# Altium integrated library Renesas Transistor.IntLib: 835 symbols (part 1 of 18)
Pins are listed as number, name and electrical type; pins without a type are passive.

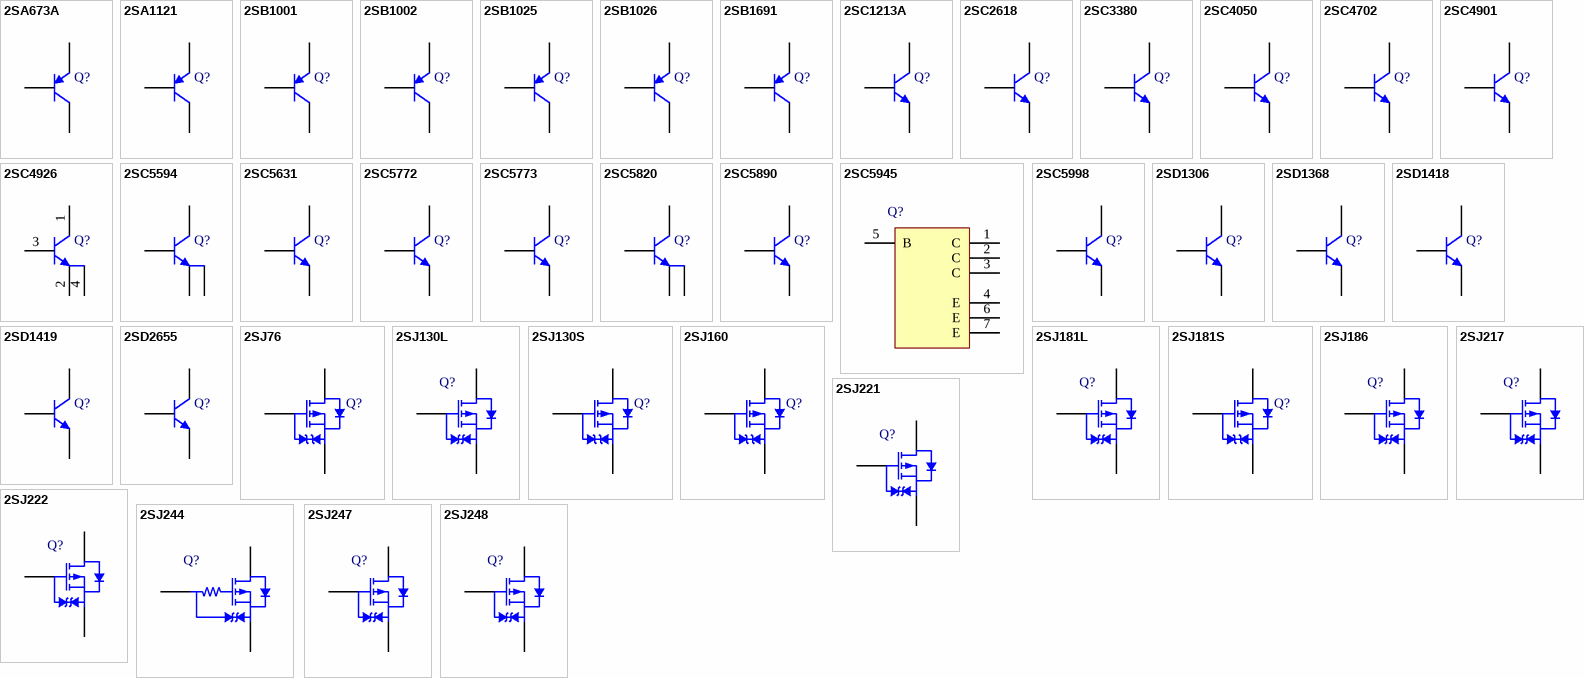
[diagram p0: symbols 2SA673A to 2SJ248]

## 2SA673A
designator Q?
Silicon PNP Epitaxial; Published: 30-Oct-2009; DatasheetVersion: Rev.2.00, Aug-2005; PackageVersion: Jan-2005; PackageReference: PRSS0003DA-A; Publisher: Altium Limited; PackageDescription: TO, Flat Index; 3 In-Line, Axial Leads; Body Dia. 4.8mm; Leads 0.55 x 0.5 mm (max); Code_JEITA: SC-43A; ComponentLink1Description: Manufacturer Link; ComponentLink1URL: http://sg.renesas.com/fmwk.jsp?cnt=discrete_category_landing.jsp&fp=/products/discrete/; ComponentLink2Description: Datasheet; ComponentLink2URL: http://documentation.renesas.com/eng/products/transistor/rej03g0626_2sa673ds.pdf; ComponentLink3Description: Packaging Specification; ComponentLink3URL: http://sg.renesas.com/media/products/common_info/package/pdf/transistor/code/prss0003da_a.pdf
footprint PRSS0003DA-A (TO, Flat Index; 3 In-Line, Axial Leads; Body Dia. 4.8mm; Leads 0.55 x 0.5 mm (max))
pins: 1 E, 2 C, 3 B

## 2SA1121
designator Q?
Silicon PNP Epitaxial; Published: 30-Oct-2009; DatasheetVersion: Rev.2.00, Aug-2005; PackageVersion: Sep-2005; PackageReference: PLSP0003ZB-A; Publisher: Altium Limited; PackageDescription: 3-Pin Plastic SOT-23 Package 0.95 mm Pitch, 2.8 mm Lead Span - Alternate Lead Configuration; Code_JEITA: SC-59A; ComponentLink1Description: Manufacturer Link; ComponentLink1URL: http://sg.renesas.com/fmwk.jsp?cnt=discrete_category_landing.jsp&fp=/products/discrete/; ComponentLink2Description: Datasheet; ComponentLink2URL: http://documentation.renesas.com/eng/products/transistor/rej03g0636_2sa1121ds.pdf; ComponentLink3Description: Packaging Specification; ComponentLink3URL: http://sg.renesas.com/media/products/common_info/package/pdf/transistor/code/plsp0003zb_a.pdf
footprint PLSP0003ZB-A_N (SOT23, 3-Leads, Body 2.9x1.5mm, Pitch 0.95mm, Lead Span 2.8mm - Alternate Lead Configuration, IPC Medium Density)
footprint PLSP0003ZB-A_L (SOT23, 3-Leads, Body 2.9x1.5mm, Pitch 0.95mm, Lead Span 2.8mm - Alternate Lead Configuration, IPC High Density)
footprint PLSP0003ZB-A_M (SOT23, 3-Leads, Body 2.9x1.5mm, Pitch 0.95mm, Lead Span 2.8mm - Alternate Lead Configuration, IPC Low Density)
pins: 1 E, 2 B, 3 C

## 2SB1001
designator Q?
Silicon PNP Epitaxial; Published: 30-Oct-2009; DatasheetVersion: Rev.2.00, Aug-2005; PackageVersion: Jan-2005; PackageReference: PLZZ0004CA-A; Publisher: Altium Limited; PackageDescription: 3-Pin Plastic SOT-89 Package 1.5 mm Pitch, 4 mm Lead Span; Code_JEITA: SC-62; Code_IPC: SOT89; ComponentLink1Description: Manufacturer Link; ComponentLink1URL: http://sg.renesas.com/fmwk.jsp?cnt=discrete_category_landing.jsp&fp=/products/discrete/; ComponentLink2Description: Datasheet; ComponentLink2URL: http://documentation.renesas.com/eng/products/transistor/rej03g0659_2sb1001ds.pdf; ComponentLink3Description: Packaging Specification; ComponentLink3URL: http://sg.renesas.com/media/products/common_info/package/pdf/transistor/code/plzz0004ca_a.pdf
footprint PLZZ0004CA-A_N (SOT89, 3-Leads, Body 4.5x2.5 mm, Pitch 1.5mm, Lead Span 4mm, IPC Medium Density)
footprint PLZZ0004CA-A_L (SOT89, 3-Leads, Body 4.5x2.5 mm, Pitch 1.5mm, Lead Span 4mm, IPC High Density)
footprint PLZZ0004CA-A_M (SOT89, 3-Leads, Body 4.5x2.5 mm, Pitch 1.5mm, Lead Span 4mm, IPC Low Density)
pins: 1 B, 2 C, 3 E

## 2SB1002
designator Q?
Silicon PNP Epitaxial; Published: 30-Oct-2009; DatasheetVersion: Rev.2.00, Aug-2005; PackageVersion: Jan-2005; PackageReference: PLZZ0004CA-A; Publisher: Altium Limited; PackageDescription: 3-Pin Plastic SOT-89 Package 1.5 mm Pitch, 4 mm Lead Span; Code_JEITA: SC-62; Code_IPC: SOT89; ComponentLink1Description: Manufacturer Link; ComponentLink1URL: http://sg.renesas.com/fmwk.jsp?cnt=discrete_category_landing.jsp&fp=/products/discrete/; ComponentLink2Description: Datasheet; ComponentLink2URL: http://documentation.renesas.com/eng/products/transistor/rej03g0660_2sb1002ds.pdf; ComponentLink3Description: Packaging Specification; ComponentLink3URL: http://sg.renesas.com/media/products/common_info/package/pdf/transistor/code/plzz0004ca_a.pdf
footprint PLZZ0004CA-A_N (SOT89, 3-Leads, Body 4.5x2.5 mm, Pitch 1.5mm, Lead Span 4mm, IPC Medium Density)
footprint PLZZ0004CA-A_L (SOT89, 3-Leads, Body 4.5x2.5 mm, Pitch 1.5mm, Lead Span 4mm, IPC High Density)
footprint PLZZ0004CA-A_M (SOT89, 3-Leads, Body 4.5x2.5 mm, Pitch 1.5mm, Lead Span 4mm, IPC Low Density)
pins: 1 B, 2 C, 3 E

## 2SB1025
designator Q?
Silicon PNP Epitaxial; Published: 30-Oct-2009; DatasheetVersion: Rev.2.00, Aug-2005; PackageVersion: Jan-2005; PackageReference: PLZZ0004CA-A; Publisher: Altium Limited; PackageDescription: 3-Pin Plastic SOT-89 Package 1.5 mm Pitch, 4 mm Lead Span; Code_JEITA: SC-62; Code_IPC: SOT89; ComponentLink1Description: Manufacturer Link; ComponentLink1URL: http://sg.renesas.com/fmwk.jsp?cnt=discrete_category_landing.jsp&fp=/products/discrete/; ComponentLink2Description: Datasheet; ComponentLink2URL: http://documentation.renesas.com/eng/products/transistor/rej03g0661_2sb1025ds.pdf; ComponentLink3Description: Packaging Specification; ComponentLink3URL: http://sg.renesas.com/media/products/common_info/package/pdf/transistor/code/plzz0004ca_a.pdf
footprint PLZZ0004CA-A_N (SOT89, 3-Leads, Body 4.5x2.5 mm, Pitch 1.5mm, Lead Span 4mm, IPC Medium Density)
footprint PLZZ0004CA-A_L (SOT89, 3-Leads, Body 4.5x2.5 mm, Pitch 1.5mm, Lead Span 4mm, IPC High Density)
footprint PLZZ0004CA-A_M (SOT89, 3-Leads, Body 4.5x2.5 mm, Pitch 1.5mm, Lead Span 4mm, IPC Low Density)
pins: 1 B, 2 C, 3 E

## 2SB1026
designator Q?
Silicon PNP Epitaxial; Published: 30-Oct-2009; DatasheetVersion: Rev.2.00, Aug-2005; PackageVersion: Jan-2005; PackageReference: PLZZ0004CA-A; Publisher: Altium Limited; PackageDescription: 3-Pin Plastic SOT-89 Package 1.5 mm Pitch, 4 mm Lead Span; Code_JEITA: SC-62; Code_IPC: SOT89; ComponentLink1Description: Manufacturer Link; ComponentLink1URL: http://sg.renesas.com/fmwk.jsp?cnt=discrete_category_landing.jsp&fp=/products/discrete/; ComponentLink2Description: Datasheet; ComponentLink2URL: http://documentation.renesas.com/eng/products/transistor/rej03g0662_2sb1026ds.pdf; ComponentLink3Description: Packaging Specification; ComponentLink3URL: http://sg.renesas.com/media/products/common_info/package/pdf/transistor/code/plzz0004ca_a.pdf
footprint PLZZ0004CA-A_N (SOT89, 3-Leads, Body 4.5x2.5 mm, Pitch 1.5mm, Lead Span 4mm, IPC Medium Density)
footprint PLZZ0004CA-A_L (SOT89, 3-Leads, Body 4.5x2.5 mm, Pitch 1.5mm, Lead Span 4mm, IPC High Density)
footprint PLZZ0004CA-A_M (SOT89, 3-Leads, Body 4.5x2.5 mm, Pitch 1.5mm, Lead Span 4mm, IPC Low Density)
pins: 1 B, 2 C, 3 E

## 2SB1691
designator Q?
Silicon PNP Epitaxial Planer, Low Frequency Power Amplifier; Published: 30-Oct-2009; DatasheetVersion: Rev.2.00, Dec-2004; PackageVersion: Sep-2005; PackageReference: PLSP0003ZB-A; Publisher: Altium Limited; PackageDescription: 3-Pin Plastic SOT-23 Package 0.95 mm Pitch, 2.8 mm Lead Span - Alternate Lead Configuration; Code_JEITA: SC-59A; ComponentLink1Description: Manufacturer Link; ComponentLink1URL: http://sg.renesas.com/fmwk.jsp?cnt=discrete_category_landing.jsp&fp=/products/discrete/; ComponentLink2Description: Datasheet; ComponentLink2URL: http://documentation.renesas.com/eng/products/transistor/rej03g0482_2sb1691.pdf; ComponentLink3Description: Packaging Specification; ComponentLink3URL: http://sg.renesas.com/media/products/common_info/package/pdf/transistor/code/plsp0003zb_a.pdf
footprint PLSP0003ZB-A_N (SOT23, 3-Leads, Body 2.9x1.5mm, Pitch 0.95mm, Lead Span 2.8mm - Alternate Lead Configuration, IPC Medium Density)
footprint PLSP0003ZB-A_L (SOT23, 3-Leads, Body 2.9x1.5mm, Pitch 0.95mm, Lead Span 2.8mm - Alternate Lead Configuration, IPC High Density)
footprint PLSP0003ZB-A_M (SOT23, 3-Leads, Body 2.9x1.5mm, Pitch 0.95mm, Lead Span 2.8mm - Alternate Lead Configuration, IPC Low Density)
pins: 1 E, 2 B, 3 C

## 2SC1213A
designator Q?
Silicon NPN Epitaxial; Published: 24-Dec-2009; DatasheetVersion: Rev.2.00, Aug-2005; PackageVersion: Jan-2005; PackageReference: PRSS0003DA-A; Publisher: Altium Limited; PackageDescription: TO, Flat Index; 3 In-Line, Axial Leads; Body Dia. 4.8mm; Leads 0.55 x 0.5 mm (max); Code_JEITA: SC-43A; ComponentLink1Description: Manufacturer Link; ComponentLink1URL: http://sg.renesas.com/fmwk.jsp?cnt=discrete_category_landing.jsp&fp=/products/discrete/; ComponentLink2Description: Datasheet; ComponentLink2URL: http://documentation.renesas.com/eng/products/transistor/rej03g0684_2sc1213ds.pdf; ComponentLink3Description: Packaging Specification; ComponentLink3URL: http://sg.renesas.com/media/products/common_info/package/pdf/transistor/code/prss0003da_a.pdf
footprint PRSS0003DA-A (TO, Flat Index; 3 In-Line, Axial Leads; Body Dia. 4.8mm; Leads 0.55 x 0.5 mm (max))
pins: 1 E, 2 C, 3 B

## 2SC2618
designator Q?
Silicon NPN Epitaxial; Published: 30-Oct-2009; DatasheetVersion: Rev.2.00, Aug-2005; PackageVersion: Sep-2005; PackageReference: PLSP0003ZB-A; Publisher: Altium Limited; PackageDescription: 3-Pin Plastic SOT-23 Package 0.95 mm Pitch, 2.8 mm Lead Span - Alternate Lead Configuration; Code_JEITA: SC-59A; ComponentLink1Description: Manufacturer Link; ComponentLink1URL: http://sg.renesas.com/fmwk.jsp?cnt=discrete_category_landing.jsp&fp=/products/discrete/; ComponentLink2Description: Datasheet; ComponentLink2URL: http://documentation.renesas.com/eng/products/transistor/rej03g0702_2sc2618ds.pdf; ComponentLink3Description: Packaging Specification; ComponentLink3URL: http://sg.renesas.com/media/products/common_info/package/pdf/transistor/code/plsp0003zb_a.pdf
footprint PLSP0003ZB-A_N (SOT23, 3-Leads, Body 2.9x1.5mm, Pitch 0.95mm, Lead Span 2.8mm - Alternate Lead Configuration, IPC Medium Density)
footprint PLSP0003ZB-A_L (SOT23, 3-Leads, Body 2.9x1.5mm, Pitch 0.95mm, Lead Span 2.8mm - Alternate Lead Configuration, IPC High Density)
footprint PLSP0003ZB-A_M (SOT23, 3-Leads, Body 2.9x1.5mm, Pitch 0.95mm, Lead Span 2.8mm - Alternate Lead Configuration, IPC Low Density)
pins: 1 E, 2 B, 3 C

## 2SC3380
designator Q?
Silicon NPN Triple Diffused; Published: 30-Oct-2009; DatasheetVersion: Rev.3.00, Aug-2005; PackageVersion: Jan-2005; PackageReference: PLZZ0004CA-A; Publisher: Altium Limited; PackageDescription: 3-Pin Plastic SOT-89 Package 1.5 mm Pitch, 4 mm Lead Span; Code_JEITA: SC-62; Code_IPC: SOT89; ComponentLink1Description: Manufacturer Link; ComponentLink1URL: http://sg.renesas.com/fmwk.jsp?cnt=discrete_category_landing.jsp&fp=/products/discrete/; ComponentLink2Description: Datasheet; ComponentLink2URL: http://documentation.renesas.com/eng/products/transistor/rej03g0713_2sc3380ds.pdf; ComponentLink3Description: Packaging Specification; ComponentLink3URL: http://sg.renesas.com/media/products/common_info/package/pdf/transistor/code/plzz0004ca_a.pdf
footprint PLZZ0004CA-A_N (SOT89, 3-Leads, Body 4.5x2.5 mm, Pitch 1.5mm, Lead Span 4mm, IPC Medium Density)
footprint PLZZ0004CA-A_L (SOT89, 3-Leads, Body 4.5x2.5 mm, Pitch 1.5mm, Lead Span 4mm, IPC High Density)
footprint PLZZ0004CA-A_M (SOT89, 3-Leads, Body 4.5x2.5 mm, Pitch 1.5mm, Lead Span 4mm, IPC Low Density)
pins: 1 B, 2 C, 3 E

## 2SC4050
designator Q?
Silicon NPN Epitaxial; Published: 30-Oct-2009; DatasheetVersion: Rev.2.00, Aug-2005; PackageVersion: Sep-2005; PackageReference: PLSP0003ZB-A; Publisher: Altium Limited; PackageDescription: 3-Pin Plastic SOT-23 Package 0.95 mm Pitch, 2.8 mm Lead Span - Alternate Lead Configuration; Code_JEITA: SC-59A; ComponentLink1Description: Manufacturer Link; ComponentLink1URL: http://sg.renesas.com/fmwk.jsp?cnt=discrete_category_landing.jsp&fp=/products/discrete/; ComponentLink2Description: Datasheet; ComponentLink2URL: http://documentation.renesas.com/eng/products/transistor/rej03g0715_2sc4050ds.pdf; ComponentLink3Description: Packaging Specification; ComponentLink3URL: http://sg.renesas.com/media/products/common_info/package/pdf/transistor/code/plsp0003zb_a.pdf
footprint PLSP0003ZB-A_N (SOT23, 3-Leads, Body 2.9x1.5mm, Pitch 0.95mm, Lead Span 2.8mm - Alternate Lead Configuration, IPC Medium Density)
footprint PLSP0003ZB-A_L (SOT23, 3-Leads, Body 2.9x1.5mm, Pitch 0.95mm, Lead Span 2.8mm - Alternate Lead Configuration, IPC High Density)
footprint PLSP0003ZB-A_M (SOT23, 3-Leads, Body 2.9x1.5mm, Pitch 0.95mm, Lead Span 2.8mm - Alternate Lead Configuration, IPC Low Density)
pins: 1 E, 2 B, 3 C

## 2SC4702
designator Q?
Silicon NPN Epitaxial; Published: 30-Oct-2009; DatasheetVersion: Rev.3.00, Aug-2005; PackageVersion: Sep-2005; PackageReference: PLSP0003ZB-A; Publisher: Altium Limited; PackageDescription: 3-Pin Plastic SOT-23 Package 0.95 mm Pitch, 2.8 mm Lead Span - Alternate Lead Configuration; Code_JEITA: SC-59A; ComponentLink1Description: Manufacturer Link; ComponentLink1URL: http://sg.renesas.com/fmwk.jsp?cnt=discrete_category_landing.jsp&fp=/products/discrete/; ComponentLink2Description: Datasheet; ComponentLink2URL: http://documentation.renesas.com/eng/products/transistor/rej03g0729_2sc4702ds.pdf; ComponentLink3Description: Packaging Specification; ComponentLink3URL: http://sg.renesas.com/media/products/common_info/package/pdf/transistor/code/plsp0003zb_a.pdf
footprint PLSP0003ZB-A_N (SOT23, 3-Leads, Body 2.9x1.5mm, Pitch 0.95mm, Lead Span 2.8mm - Alternate Lead Configuration, IPC Medium Density)
footprint PLSP0003ZB-A_L (SOT23, 3-Leads, Body 2.9x1.5mm, Pitch 0.95mm, Lead Span 2.8mm - Alternate Lead Configuration, IPC High Density)
footprint PLSP0003ZB-A_M (SOT23, 3-Leads, Body 2.9x1.5mm, Pitch 0.95mm, Lead Span 2.8mm - Alternate Lead Configuration, IPC Low Density)
pins: 1 E, 2 B, 3 C

## 2SC4901
designator Q?
Silicon NPN Epitaxial; Published: 30-Oct-2009; DatasheetVersion: Rev.3.00, Aug-2005; PackageVersion: Jul-2006; PackageReference: PTSP0003ZA-A; Publisher: Altium Limited; PackageDescription: 3-Pin Plastic SOT-23 Package 0.65 mm Pitch, 2.1 mm Lead Span (CMPAK); Code_JEITA: SC-70; ComponentLink1Description: Manufacturer Link; ComponentLink1URL: http://sg.renesas.com/fmwk.jsp?cnt=discrete_category_landing.jsp&fp=/products/discrete/; ComponentLink2Description: Datasheet; ComponentLink2URL: http://documentation.renesas.com/eng/products/transistor/rej03g0733_2sc4901ds.pdf; ComponentLink3Description: Packaging Specification; ComponentLink3URL: http://sg.renesas.com/media/products/common_info/package/pdf/transistor/code/ptsp0003za_a.pdf
footprint PTSP0003ZA-A_N (SOT23, 3-Leads, Body 2.0 x1.25mm, Pitch 0.65mm, Lead Span 2.1mm, IPC Medium Density)
footprint PTSP0003ZA-A_L (SOT23, 3-Leads, Body 2.0 x1.25mm, Pitch 0.65mm, Lead Span 2.1mm, IPC High Density)
footprint PTSP0003ZA-A_M (SOT23, 3-Leads, Body 2.0 x1.25mm, Pitch 0.65mm, Lead Span 2.1mm, IPC Low Density)
pins: 1 E, 2 B, 3 C

## 2SC4926
designator Q?
Silicon NPN Epitaxial; Published: 30-Oct-2009; DatasheetVersion: Rev.3.00, Aug-2005; PackageVersion: Jul-2006; PackageReference: PLSP0004ZA-A; Publisher: Altium Limited; PackageDescription: 4-Pin SOT-143 Package 1.9 mm Pitch, 2.6 mm Lead Span (MPAK-4); Code_JEITA: SC-61AA; ComponentLink1Description: Manufacturer Link; ComponentLink1URL: http://sg.renesas.com/fmwk.jsp?cnt=discrete_category_landing.jsp&fp=/products/discrete/; ComponentLink2Description: Datasheet; ComponentLink2URL: http://documentation.renesas.com/eng/products/transistor/rej03g0735_2sc4926ds.pdf; ComponentLink3Description: Packaging Specification; ComponentLink3URL: http://sg.renesas.com/media/products/common_info/package/pdf/transistor/code/plsp0004za_a.pdf
footprint PLSP0004ZA-A_N (SOT143, 4-Leads, Body 2.9x1.5mm, Pitch 1.9mm, Lead Span 2.6mm, IPC Medium Density)
footprint PLSP0004ZA-A_L (SOT143, 4-Leads, Body 2.9x1.5mm, Pitch 1.9mm, Lead Span 2.6mm, IPC High Density)
footprint PLSP0004ZA-A_M (SOT143, 4-Leads, Body 2.9x1.5mm, Pitch 1.9mm, Lead Span 2.6mm, IPC Low Density)
pins: 1 C, 2 E, 3 B, 4 E

## 2SC5594
designator Q?
Silicon NPN Epitaxial, High Frequency Low Noise Amplifier; Published: 30-Oct-2009; DatasheetVersion: Rev.2.00, Aug-2005; PackageVersion: Nov-2007; PackageReference: PTSP0004ZA-A; Publisher: Altium Limited; PackageDescription: 4-Pin Plastic SOT-343 Package 1.3 mm Pitch, 2.1 mm Lead Span (CMPAK-4); Code_JEITA: SC-82AB; ComponentLink1Description: Manufacturer Link; ComponentLink1URL: http://sg.renesas.com/fmwk.jsp?cnt=discrete_category_landing.jsp&fp=/products/discrete/; ComponentLink2Description: Datasheet; ComponentLink2URL: http://documentation.renesas.com/eng/products/transistor/rej03g0749_2sc5594ds.pdf; ComponentLink3Description: Packaging Specification; ComponentLink3URL: http://sg.renesas.com/media/products/common_info/package/pdf/transistor/code/ptsp0004za_a.pdf
footprint PTSP0004ZA-A_N (SOT343, 4-Leads, Body 2x1.25 mm, Pitch 1.3mm, Lead Span 2.1mm, IPC Medium Density)
footprint PTSP0004ZA-A_L (SOT343, 4-Leads, Body 2x1.25 mm, Pitch 1.3mm, Lead Span 2.1mm, IPC High Density)
footprint PTSP0004ZA-A_M (SOT343, 4-Leads, Body 2x1.25 mm, Pitch 1.3mm, Lead Span 2.1mm, IPC Low Density)
pins: 1 E, 2 C, 3 E, 4 B

## 2SC5631
designator Q?
Silicon NPN Epitaxial, UHF / VHF Wide Band Amplifier; Published: 30-Oct-2009; DatasheetVersion: Rev.3.00, Oct-2003; PackageVersion: Jan-2005; PackageReference: PLZZ0004CA-A; Publisher: Altium Limited; PackageDescription: 3-Pin Plastic SOT-89 Package 1.5 mm Pitch, 4 mm Lead Span; Code_JEITA: SC-62; Code_IPC: SOT89; ComponentLink1Description: Manufacturer Link; ComponentLink1URL: http://sg.renesas.com/fmwk.jsp?cnt=discrete_category_landing.jsp&fp=/products/discrete/; ComponentLink2Description: Datasheet; ComponentLink2URL: http://documentation.renesas.com/eng/products/transistor/rej03g0128_2sc5631.pdf; ComponentLink3Description: Packaging Specification; ComponentLink3URL: http://sg.renesas.com/media/products/common_info/package/pdf/transistor/code/plzz0004ca_a.pdf
footprint PLZZ0004CA-A_N (SOT89, 3-Leads, Body 4.5x2.5 mm, Pitch 1.5mm, Lead Span 4mm, IPC Medium Density)
footprint PLZZ0004CA-A_L (SOT89, 3-Leads, Body 4.5x2.5 mm, Pitch 1.5mm, Lead Span 4mm, IPC High Density)
footprint PLZZ0004CA-A_M (SOT89, 3-Leads, Body 4.5x2.5 mm, Pitch 1.5mm, Lead Span 4mm, IPC Low Density)
pins: 1 B, 2 C, 3 E

## 2SC5772
designator Q?
Silicon NPN Epitaxial, UHF / VHF Wide Band Amplifier; Published: 30-Oct-2009; DatasheetVersion: Rev.2.00, Aug-2005; PackageVersion: Sep-2005; PackageReference: PLSP0003ZB-A; Publisher: Altium Limited; PackageDescription: 3-Pin Plastic SOT-23 Package 0.95 mm Pitch, 2.8 mm Lead Span - Alternate Lead Configuration; Code_JEITA: SC-59A; ComponentLink1Description: Manufacturer Link; ComponentLink1URL: http://sg.renesas.com/fmwk.jsp?cnt=discrete_category_landing.jsp&fp=/products/discrete/; ComponentLink2Description: Datasheet; ComponentLink2URL: http://documentation.renesas.com/eng/products/transistor/rej03g0755_2sc5772ds.pdf; ComponentLink3Description: Packaging Specification; ComponentLink3URL: http://sg.renesas.com/media/products/common_info/package/pdf/transistor/code/plsp0003zb_a.pdf
footprint PLSP0003ZB-A_N (SOT23, 3-Leads, Body 2.9x1.5mm, Pitch 0.95mm, Lead Span 2.8mm - Alternate Lead Configuration, IPC Medium Density)
footprint PLSP0003ZB-A_L (SOT23, 3-Leads, Body 2.9x1.5mm, Pitch 0.95mm, Lead Span 2.8mm - Alternate Lead Configuration, IPC High Density)
footprint PLSP0003ZB-A_M (SOT23, 3-Leads, Body 2.9x1.5mm, Pitch 0.95mm, Lead Span 2.8mm - Alternate Lead Configuration, IPC Low Density)
pins: 1 E, 2 B, 3 C

## 2SC5773
designator Q?
Silicon NPN Epitaxial, UHF / VHF Wide Band Amplifier; Published: 30-Oct-2009; DatasheetVersion: Rev.3.00, May-2006; PackageVersion: Sep-2005; PackageReference: PLSP0003ZB-A; Publisher: Altium Limited; PackageDescription: 3-Pin Plastic SOT-23 Package 0.95 mm Pitch, 2.8 mm Lead Span - Alternate Lead Configuration; Code_JEITA: SC-59A; ComponentLink1Description: Manufacturer Link; ComponentLink1URL: http://sg.renesas.com/fmwk.jsp?cnt=discrete_category_landing.jsp&fp=/products/discrete/; ComponentLink2Description: Datasheet; ComponentLink2URL: http://documentation.renesas.com/eng/products/transistor/rej03g0756_2sc5773ds.pdf; ComponentLink3Description: Packaging Specification; ComponentLink3URL: http://sg.renesas.com/media/products/common_info/package/pdf/transistor/code/plsp0003zb_a.pdf
footprint PLSP0003ZB-A_N (SOT23, 3-Leads, Body 2.9x1.5mm, Pitch 0.95mm, Lead Span 2.8mm - Alternate Lead Configuration, IPC Medium Density)
footprint PLSP0003ZB-A_L (SOT23, 3-Leads, Body 2.9x1.5mm, Pitch 0.95mm, Lead Span 2.8mm - Alternate Lead Configuration, IPC High Density)
footprint PLSP0003ZB-A_M (SOT23, 3-Leads, Body 2.9x1.5mm, Pitch 0.95mm, Lead Span 2.8mm - Alternate Lead Configuration, IPC Low Density)
pins: 1 E, 2 B, 3 C

## 2SC5820
designator Q?
Silicon NPN Epitaxial, High Frequency Low Noise Amplifier / Oscillator; Published: 30-Oct-2009; DatasheetVersion: Rev.2.00, Aug-2005; PackageVersion: Nov-2007; PackageReference: PTSP0004ZA-A; Publisher: Altium Limited; PackageDescription: 4-Pin Plastic SOT-343 Package 1.3 mm Pitch, 2.1 mm Lead Span (CMPAK-4); Code_JEITA: SC-82AB; ComponentLink1Description: Manufacturer Link; ComponentLink1URL: http://sg.renesas.com/fmwk.jsp?cnt=discrete_category_landing.jsp&fp=/products/discrete/; ComponentLink2Description: Datasheet; ComponentLink2URL: http://documentation.renesas.com/eng/products/transistor/rej03g0758_2sc5820ds.pdf; ComponentLink3Description: Packaging Specification; ComponentLink3URL: http://sg.renesas.com/media/products/common_info/package/pdf/transistor/code/ptsp0004za_a.pdf
footprint PTSP0004ZA-A_N (SOT343, 4-Leads, Body 2x1.25 mm, Pitch 1.3mm, Lead Span 2.1mm, IPC Medium Density)
footprint PTSP0004ZA-A_L (SOT343, 4-Leads, Body 2x1.25 mm, Pitch 1.3mm, Lead Span 2.1mm, IPC High Density)
footprint PTSP0004ZA-A_M (SOT343, 4-Leads, Body 2x1.25 mm, Pitch 1.3mm, Lead Span 2.1mm, IPC Low Density)
pins: 1 E, 2 C, 3 E, 4 B

## 2SC5890
designator Q?
Silicon NPN Epitaxial, UHF / VHF Wide Band Amplifier; Published: 30-Oct-2009; DatasheetVersion: Rev.1.00, Aug-2005; PackageVersion: Sep-2005; PackageReference: PLSP0003ZB-A; Publisher: Altium Limited; PackageDescription: 3-Pin Plastic SOT-23 Package 0.95 mm Pitch, 2.8 mm Lead Span - Alternate Lead Configuration; Code_JEITA: SC-59A; ComponentLink1Description: Manufacturer Link; ComponentLink1URL: http://sg.renesas.com/fmwk.jsp?cnt=discrete_category_landing.jsp&fp=/products/discrete/; ComponentLink2Description: Datasheet; ComponentLink2URL: http://documentation.renesas.com/eng/products/transistor/rej03g0763_2sc5890ds.pdf; ComponentLink3Description: Packaging Specification; ComponentLink3URL: http://sg.renesas.com/media/products/common_info/package/pdf/transistor/code/plsp0003zb_a.pdf
footprint PLSP0003ZB-A_N (SOT23, 3-Leads, Body 2.9x1.5mm, Pitch 0.95mm, Lead Span 2.8mm - Alternate Lead Configuration, IPC Medium Density)
footprint PLSP0003ZB-A_L (SOT23, 3-Leads, Body 2.9x1.5mm, Pitch 0.95mm, Lead Span 2.8mm - Alternate Lead Configuration, IPC High Density)
footprint PLSP0003ZB-A_M (SOT23, 3-Leads, Body 2.9x1.5mm, Pitch 0.95mm, Lead Span 2.8mm - Alternate Lead Configuration, IPC Low Density)
pins: 1 E, 2 B, 3 C

## 2SC5945
designator Q?
Si NPN Epitaxial, High Frequency Medium Power Amplifier; Published: 24-Dec-2009; DatasheetVersion: Rev.3.00, Aug-2006; PackageVersion: Aug-2006; PackageReference: PWSN0006JA-A; Publisher: Altium Limited; PackageDescription: 6-Lead Plastic Dual Flat, No Lead Package - 2x2x0.75 mm Body (HWSON-6); Code_JEITA: P-HWSON6-2x2-0.65; ComponentLink1Description: Manufacturer Link; ComponentLink1URL: http://sg.renesas.com/fmwk.jsp?cnt=discrete_category_landing.jsp&fp=/products/discrete/; ComponentLink2Description: Datasheet; ComponentLink2URL: http://documentation.renesas.com/eng/products/transistor/rej03g0443_2sc5945.pdf; ComponentLink3Description: Packaging Specification; ComponentLink3URL: http://sg.renesas.com/media/products/common_info/package/pdf/transistor/code/pwsn0006ja_a.pdf
footprint PWSN0006JA-A (SON, 6-Leads, Body 2x2 mm, Pitch 0.65mm)
pins: 1 C, 2 C, 3 C, 4 E, 5 B, 6 E, 7 E

## 2SC5998
designator Q?
Power Switching; Published: 30-Oct-2009; DatasheetVersion: Rev.1.01, Jan-2006; PackageVersion: Sep-2005; PackageReference: PLSP0003ZB-A; Publisher: Altium Limited; PackageDescription: 3-Pin Plastic SOT-23 Package 0.95 mm Pitch, 2.8 mm Lead Span - Alternate Lead Configuration; Code_JEITA: SC-59A; ComponentLink1Description: Manufacturer Link; ComponentLink1URL: http://sg.renesas.com/fmwk.jsp?cnt=discrete_category_landing.jsp&fp=/products/discrete/; ComponentLink2Description: Datasheet; ComponentLink2URL: http://documentation.renesas.com/eng/products/transistor/rej03g0169_2sc5998.pdf; ComponentLink3Description: Packaging Specification; ComponentLink3URL: http://sg.renesas.com/media/products/common_info/package/pdf/transistor/code/plsp0003zb_a.pdf
footprint PLSP0003ZB-A_N (SOT23, 3-Leads, Body 2.9x1.5mm, Pitch 0.95mm, Lead Span 2.8mm - Alternate Lead Configuration, IPC Medium Density)
footprint PLSP0003ZB-A_L (SOT23, 3-Leads, Body 2.9x1.5mm, Pitch 0.95mm, Lead Span 2.8mm - Alternate Lead Configuration, IPC High Density)
footprint PLSP0003ZB-A_M (SOT23, 3-Leads, Body 2.9x1.5mm, Pitch 0.95mm, Lead Span 2.8mm - Alternate Lead Configuration, IPC Low Density)
pins: 1 C, 2 B, 3 E

## 2SD1306
designator Q?
Silicon NPN Epitaxial; Published: 30-Oct-2009; DatasheetVersion: Rev.2.00, Aug-2005; PackageVersion: Sep-2005; PackageReference: PLSP0003ZB-A; Publisher: Altium Limited; PackageDescription: 3-Pin Plastic SOT-23 Package 0.95 mm Pitch, 2.8 mm Lead Span - Alternate Lead Configuration; Code_JEITA: SC-59A; ComponentLink1Description: Manufacturer Link; ComponentLink1URL: http://sg.renesas.com/fmwk.jsp?cnt=discrete_category_landing.jsp&fp=/products/discrete/; ComponentLink2Description: Datasheet; ComponentLink2URL: http://documentation.renesas.com/eng/products/transistor/rej03g0784_2sd1306ds.pdf; ComponentLink3Description: Packaging Specification; ComponentLink3URL: http://sg.renesas.com/media/products/common_info/package/pdf/transistor/code/plsp0003zb_a.pdf
footprint PLSP0003ZB-A_N (SOT23, 3-Leads, Body 2.9x1.5mm, Pitch 0.95mm, Lead Span 2.8mm - Alternate Lead Configuration, IPC Medium Density)
footprint PLSP0003ZB-A_L (SOT23, 3-Leads, Body 2.9x1.5mm, Pitch 0.95mm, Lead Span 2.8mm - Alternate Lead Configuration, IPC High Density)
footprint PLSP0003ZB-A_M (SOT23, 3-Leads, Body 2.9x1.5mm, Pitch 0.95mm, Lead Span 2.8mm - Alternate Lead Configuration, IPC Low Density)
pins: 1 E, 2 B, 3 C

## 2SD1368
designator Q?
Silicon NPN Epitaxial; Published: 30-Oct-2009; DatasheetVersion: Rev.2.00, Aug-2005; PackageVersion: Jan-2005; PackageReference: PLZZ0004CA-A; Publisher: Altium Limited; PackageDescription: 3-Pin Plastic SOT-89 Package 1.5 mm Pitch, 4 mm Lead Span; Code_JEITA: SC-62; Code_IPC: SOT89; ComponentLink1Description: Manufacturer Link; ComponentLink1URL: http://sg.renesas.com/fmwk.jsp?cnt=discrete_category_landing.jsp&fp=/products/discrete/; ComponentLink2Description: Datasheet; ComponentLink2URL: http://documentation.renesas.com/eng/products/transistor/rej03g0786_2sd1368ds.pdf; ComponentLink3Description: Packaging Specification; ComponentLink3URL: http://sg.renesas.com/media/products/common_info/package/pdf/transistor/code/plzz0004ca_a.pdf
footprint PLZZ0004CA-A_N (SOT89, 3-Leads, Body 4.5x2.5 mm, Pitch 1.5mm, Lead Span 4mm, IPC Medium Density)
footprint PLZZ0004CA-A_L (SOT89, 3-Leads, Body 4.5x2.5 mm, Pitch 1.5mm, Lead Span 4mm, IPC High Density)
footprint PLZZ0004CA-A_M (SOT89, 3-Leads, Body 4.5x2.5 mm, Pitch 1.5mm, Lead Span 4mm, IPC Low Density)
pins: 1 B, 2 C, 3 E

## 2SD1418
designator Q?
Silicon NPN Epitaxial; Published: 30-Oct-2009; DatasheetVersion: Rev.2.00, Aug-2005; PackageVersion: Jan-2005; PackageReference: PLZZ0004CA-A; Publisher: Altium Limited; PackageDescription: 3-Pin Plastic SOT-89 Package 1.5 mm Pitch, 4 mm Lead Span; Code_JEITA: SC-62; Code_IPC: SOT89; ComponentLink1Description: Manufacturer Link; ComponentLink1URL: http://sg.renesas.com/fmwk.jsp?cnt=discrete_category_landing.jsp&fp=/products/discrete/; ComponentLink2Description: Datasheet; ComponentLink2URL: http://documentation.renesas.com/eng/products/transistor/rej03g0787_2sd1418ds.pdf; ComponentLink3Description: Packaging Specification; ComponentLink3URL: http://sg.renesas.com/media/products/common_info/package/pdf/transistor/code/plzz0004ca_a.pdf
footprint PLZZ0004CA-A_N (SOT89, 3-Leads, Body 4.5x2.5 mm, Pitch 1.5mm, Lead Span 4mm, IPC Medium Density)
footprint PLZZ0004CA-A_L (SOT89, 3-Leads, Body 4.5x2.5 mm, Pitch 1.5mm, Lead Span 4mm, IPC High Density)
footprint PLZZ0004CA-A_M (SOT89, 3-Leads, Body 4.5x2.5 mm, Pitch 1.5mm, Lead Span 4mm, IPC Low Density)
pins: 1 B, 2 C, 3 E

## 2SD1419
designator Q?
Silicon NPN Epitaxial; Published: 30-Oct-2009; DatasheetVersion: Rev.2.00, Aug-2005; PackageVersion: Jan-2005; PackageReference: PLZZ0004CA-A; Publisher: Altium Limited; PackageDescription: 3-Pin Plastic SOT-89 Package 1.5 mm Pitch, 4 mm Lead Span; Code_JEITA: SC-62; Code_IPC: SOT89; ComponentLink1Description: Manufacturer Link; ComponentLink1URL: http://sg.renesas.com/fmwk.jsp?cnt=discrete_category_landing.jsp&fp=/products/discrete/; ComponentLink2Description: Datasheet; ComponentLink2URL: http://documentation.renesas.com/eng/products/transistor/rej03g0788_2sd1419ds.pdf; ComponentLink3Description: Packaging Specification; ComponentLink3URL: http://sg.renesas.com/media/products/common_info/package/pdf/transistor/code/plzz0004ca_a.pdf
footprint PLZZ0004CA-A_N (SOT89, 3-Leads, Body 4.5x2.5 mm, Pitch 1.5mm, Lead Span 4mm, IPC Medium Density)
footprint PLZZ0004CA-A_L (SOT89, 3-Leads, Body 4.5x2.5 mm, Pitch 1.5mm, Lead Span 4mm, IPC High Density)
footprint PLZZ0004CA-A_M (SOT89, 3-Leads, Body 4.5x2.5 mm, Pitch 1.5mm, Lead Span 4mm, IPC Low Density)
pins: 1 B, 2 C, 3 E

## 2SD2655
designator Q?
Silicon NPN Epitaxial Planer, Low Frequency Power Amplifier; Published: 30-Oct-2009; DatasheetVersion: Rev.2.00, Aug-2005; PackageVersion: Sep-2005; PackageReference: PLSP0003ZB-A; Publisher: Altium Limited; PackageDescription: 3-Pin Plastic SOT-23 Package 0.95 mm Pitch, 2.8 mm Lead Span - Alternate Lead Configuration; Code_JEITA: SC-59A; ComponentLink1Description: Manufacturer Link; ComponentLink1URL: http://sg.renesas.com/fmwk.jsp?cnt=discrete_category_landing.jsp&fp=/products/discrete/; ComponentLink2Description: Datasheet; ComponentLink2URL: http://documentation.renesas.com/eng/products/transistor/rej03g0810_2sd2655ds.pdf; ComponentLink3Description: Packaging Specification; ComponentLink3URL: http://sg.renesas.com/media/products/common_info/package/pdf/transistor/code/plsp0003zb_a.pdf
footprint PLSP0003ZB-A_N (SOT23, 3-Leads, Body 2.9x1.5mm, Pitch 0.95mm, Lead Span 2.8mm - Alternate Lead Configuration, IPC Medium Density)
footprint PLSP0003ZB-A_L (SOT23, 3-Leads, Body 2.9x1.5mm, Pitch 0.95mm, Lead Span 2.8mm - Alternate Lead Configuration, IPC High Density)
footprint PLSP0003ZB-A_M (SOT23, 3-Leads, Body 2.9x1.5mm, Pitch 0.95mm, Lead Span 2.8mm - Alternate Lead Configuration, IPC Low Density)
pins: 1 E, 2 B, 3 C

## 2SJ76
designator Q?
Silicon P-Channel MOSFET; Published: 30-Oct-2009; DatasheetVersion: Rev.2.00, Sep-2005; PackageVersion: Sep-2005; PackageReference: PRSS0004AC-A; Publisher: Altium Limited; PackageDescription: TO, Thru-Hole, Vertical, Heatsink Mounted; 3 In-Line Leads; Pitch 2.54 mm (TO-220AB); Code_JEITA: SC-46; ComponentLink1Description: Manufacturer Link; ComponentLink1URL: http://sg.renesas.com/fmwk.jsp?cnt=discrete_category_landing.jsp&fp=/products/discrete/; ComponentLink2Description: Datasheet; ComponentLink2URL: http://documentation.renesas.com/eng/products/transistor/rej03g0122_2sj76ds.pdf; ComponentLink3Description: Packaging Specification; ComponentLink3URL: http://sg.renesas.com/media/products/common_info/package/pdf/transistor/code/prss0004ac_a.pdf
footprint PRSS0004AC-A (TO, Thru-Hole, Vertical, Heatsink Mounted; 3 In-Line Leads; Pitch 2.54 mm)
pins: 1 G, 2 S, 3 D

## 2SJ130L
designator Q?
Silicon P-Channel MOSFET; Published: 30-Oct-2009; DatasheetVersion: Rev.2.00, Sep-2005; PackageVersion: Sep-2005; PackageReference: PRSS0004ZD-A; Publisher: Altium Limited; PackageDescription: TO, Thru-Hole, Vertical, Heatsink Mounted; 3 In-Line Leads (DPAK(L)-(1)); ComponentLink1Description: Manufacturer Link; ComponentLink1URL: http://sg.renesas.com/fmwk.jsp?cnt=discrete_category_landing.jsp&fp=/products/discrete/; ComponentLink2Description: Datasheet; ComponentLink2URL: http://documentation.renesas.com/eng/products/transistor/rej03g0846_2sj130lsds.pdf; ComponentLink3Description: Packaging Specification; ComponentLink3URL: http://sg.renesas.com/media/products/common_info/package/pdf/transistor/code/prss0004zd_a.pdf
footprint PRSS0004ZD-A (TO, Thru-Hole, Vertical, Heatsink Mounted; 3 In-Line Leads; Pitch 2.28 mm)
pins: 1 G, 2 D, 3 S

## 2SJ130S
designator Q?
Silicon P-Channel MOSFET; Published: 30-Oct-2009; DatasheetVersion: Rev.2.00, Sep-2005; PackageVersion: Jan-2006; PackageReference: PRSS0004ZD-C; Publisher: Altium Limited; PackageDescription: 3-Pin Plastic Transistor Outline Package, 5.5 x 6.5 mm Body (DPAK(S)); Code_JEITA: SC-63; ComponentLink1Description: Manufacturer Link; ComponentLink1URL: http://sg.renesas.com/fmwk.jsp?cnt=discrete_category_landing.jsp&fp=/products/discrete/; ComponentLink2Description: Datasheet; ComponentLink2URL: http://documentation.renesas.com/eng/products/transistor/rej03g0846_2sj130lsds.pdf; ComponentLink3Description: Packaging Specification; ComponentLink3URL: http://sg.renesas.com/media/products/common_info/package/pdf/transistor/code/prss0004zd_c.pdf
footprint PRSS0004ZD-C_N (D-PAK, 4-Leads, Body 5.5x6.5mm, Pitch 2.3mm, Lead Span 9.9mm, IPC Medium Density)
footprint PRSS0004ZD-C_L (D-PAK, 4-Leads, Body 5.5x6.5mm, Pitch 2.3mm, Lead Span 9.9mm, IPC High Density)
footprint PRSS0004ZD-C_M (D-PAK, 4-Leads, Body 5.5x6.5mm, Pitch 2.3mm, Lead Span 9.9mm, IPC Low Density)
pins: 1 G, 3 S, 4 D

## 2SJ160
designator Q?
Silicon P-Channel MOSFET; Published: 30-Oct-2009; DatasheetVersion: Rev.2.00, Sep-2005; PackageVersion: Sep-2005; PackageReference: PRSS0004ZE-A; Publisher: Altium Limited; PackageDescription: TO, Thru-Hole, Vertical, Heatsink Mounted; 3 In-Line Leads; Pitch 5.45 mm (TO-3P); Code_JEITA: SC-65; ComponentLink1Description: Manufacturer Link; ComponentLink1URL: http://sg.renesas.com/fmwk.jsp?cnt=discrete_category_landing.jsp&fp=/products/discrete/; ComponentLink2Description: Datasheet; ComponentLink2URL: http://documentation.renesas.com/eng/products/transistor/rej03g0847_2sj160ds.pdf; ComponentLink3Description: Packaging Specification; ComponentLink3URL: http://sg.renesas.com/media/products/common_info/package/pdf/transistor/code/prss0004ze_a.pdf
footprint PRSS0004ZE-A (TO, Thru-Hole, Vertical, Heatsink Mounted; 3 In-Line Leads; Pitch 5.45 mm)
pins: 1 G, 2 S, 3 D

## 2SJ181L
designator Q?
Silicon P-Channel MOSFET; Published: 30-Oct-2009; DatasheetVersion: Rev.2.00, Sep-2005; PackageVersion: Sep-2005; PackageReference: PRSS0004ZD-A; Publisher: Altium Limited; PackageDescription: TO, Thru-Hole, Vertical, Heatsink Mounted; 3 In-Line Leads (DPAK(L)-(1)); ComponentLink1Description: Manufacturer Link; ComponentLink1URL: http://sg.renesas.com/fmwk.jsp?cnt=discrete_category_landing.jsp&fp=/products/discrete/; ComponentLink2Description: Datasheet; ComponentLink2URL: http://documentation.renesas.com/eng/products/transistor/rej03g0848_2sj181lsds.pdf; ComponentLink3Description: Packaging Specification; ComponentLink3URL: http://sg.renesas.com/media/products/common_info/package/pdf/transistor/code/prss0004zd_a.pdf
footprint PRSS0004ZD-A (TO, Thru-Hole, Vertical, Heatsink Mounted; 3 In-Line Leads; Pitch 2.28 mm)
pins: 1 G, 2 D, 3 S

## 2SJ181S
designator Q?
Silicon P-Channel MOSFET; Published: 30-Oct-2009; DatasheetVersion: Rev.2.00, Sep-2005; PackageVersion: Jan-2006; PackageReference: PRSS0004ZD-C; Publisher: Altium Limited; PackageDescription: 3-Pin Plastic Transistor Outline Package, 5.5 x 6.5 mm Body (DPAK(S)); Code_JEITA: SC-63; ComponentLink1Description: Manufacturer Link; ComponentLink1URL: http://sg.renesas.com/fmwk.jsp?cnt=discrete_category_landing.jsp&fp=/products/discrete/; ComponentLink2Description: Datasheet; ComponentLink2URL: http://documentation.renesas.com/eng/products/transistor/rej03g0848_2sj181lsds.pdf; ComponentLink3Description: Packaging Specification; ComponentLink3URL: http://sg.renesas.com/media/products/common_info/package/pdf/transistor/code/prss0004zd_c.pdf
footprint PRSS0004ZD-C_N (D-PAK, 4-Leads, Body 5.5x6.5mm, Pitch 2.3mm, Lead Span 9.9mm, IPC Medium Density)
footprint PRSS0004ZD-C_L (D-PAK, 4-Leads, Body 5.5x6.5mm, Pitch 2.3mm, Lead Span 9.9mm, IPC High Density)
footprint PRSS0004ZD-C_M (D-PAK, 4-Leads, Body 5.5x6.5mm, Pitch 2.3mm, Lead Span 9.9mm, IPC Low Density)
pins: 1 G, 3 S, 4 D

## 2SJ186
designator Q?
Silicon P-Channel MOSFET; Published: 30-Oct-2009; DatasheetVersion: Rev.2.00, Sep-2005; PackageVersion: Jan-2005; PackageReference: PLZZ0004CA-A; Publisher: Altium Limited; PackageDescription: 3-Pin Plastic SOT-89 Package 1.5 mm Pitch, 4 mm Lead Span; Code_JEITA: SC-62; Code_IPC: SOT89; ComponentLink1Description: Manufacturer Link; ComponentLink1URL: http://sg.renesas.com/fmwk.jsp?cnt=discrete_category_landing.jsp&fp=/products/discrete/; ComponentLink2Description: Datasheet; ComponentLink2URL: http://documentation.renesas.com/eng/products/transistor/rej03g0849_2sj186ds.pdf; ComponentLink3Description: Packaging Specification; ComponentLink3URL: http://sg.renesas.com/media/products/common_info/package/pdf/transistor/code/plzz0004ca_a.pdf
footprint PLZZ0004CA-A_N (SOT89, 3-Leads, Body 4.5x2.5 mm, Pitch 1.5mm, Lead Span 4mm, IPC Medium Density)
footprint PLZZ0004CA-A_L (SOT89, 3-Leads, Body 4.5x2.5 mm, Pitch 1.5mm, Lead Span 4mm, IPC High Density)
footprint PLZZ0004CA-A_M (SOT89, 3-Leads, Body 4.5x2.5 mm, Pitch 1.5mm, Lead Span 4mm, IPC Low Density)
pins: 1 G, 2 D, 3 S

## 2SJ217
designator Q?
Silicon P-Channel MOSFET; Published: 30-Oct-2009; DatasheetVersion: Rev.2.00, Sep-2005; PackageVersion: Sep-2005; PackageReference: PRSS0004ZE-A; Publisher: Altium Limited; PackageDescription: TO, Thru-Hole, Vertical, Heatsink Mounted; 3 In-Line Leads; Pitch 5.45 mm (TO-3P); Code_JEITA: SC-65; ComponentLink1Description: Manufacturer Link; ComponentLink1URL: http://sg.renesas.com/fmwk.jsp?cnt=discrete_category_landing.jsp&fp=/products/discrete/; ComponentLink2Description: Datasheet; ComponentLink2URL: http://documentation.renesas.com/eng/products/transistor/rej03g0850_2sj217ds.pdf; ComponentLink3Description: Packaging Specification; ComponentLink3URL: http://sg.renesas.com/media/products/common_info/package/pdf/transistor/code/prss0004ze_a.pdf
footprint PRSS0004ZE-A (TO, Thru-Hole, Vertical, Heatsink Mounted; 3 In-Line Leads; Pitch 5.45 mm)
pins: 1 G, 2 D, 3 S

## 2SJ221
designator Q?
Silicon P-Channel MOSFET; Published: 30-Oct-2009; DatasheetVersion: Rev.2.00, Sep-2005; PackageVersion: Sep-2005; PackageReference: PRSS0004AC-A; Publisher: Altium Limited; PackageDescription: TO, Thru-Hole, Vertical, Heatsink Mounted; 3 In-Line Leads; Pitch 2.54 mm (TO-220AB); Supplier 1: Farnell; Supplier Part Number 1: 353735; Code_JEITA: SC-46; ComponentLink1Description: Manufacturer Link; ComponentLink1URL: http://sg.renesas.com/fmwk.jsp?cnt=discrete_category_landing.jsp&fp=/products/discrete/; ComponentLink2Description: Datasheet; ComponentLink2URL: http://documentation.renesas.com/eng/products/transistor/rej03g0851_2sj221ds.pdf; ComponentLink3Description: Packaging Specification; ComponentLink3URL: http://sg.renesas.com/media/products/common_info/package/pdf/transistor/code/prss0004ac_a.pdf
footprint PRSS0004AC-A (TO, Thru-Hole, Vertical, Heatsink Mounted; 3 In-Line Leads; Pitch 2.54 mm)
pins: 1 G, 2 D, 3 S

## 2SJ222
designator Q?
Silicon P-Channel MOSFET; Published: 30-Oct-2009; DatasheetVersion: Rev.2.00, Sep-2005; PackageVersion: Sep-2005; PackageReference: PRSS0003AD-A; Publisher: Altium Limited; PackageDescription: TO, Thru-Hole, Vertical, Heatsink Mounted; 3 In-Line Leads; Pitch 2.54 mm; Code_JEITA: SC-67; ComponentLink1Description: Manufacturer Link; ComponentLink1URL: http://sg.renesas.com/fmwk.jsp?cnt=discrete_category_landing.jsp&fp=/products/discrete/; ComponentLink2Description: Datasheet; ComponentLink2URL: http://documentation.renesas.com/eng/products/transistor/rej03g0852_2sj222ds.pdf; ComponentLink3Description: Packaging Specification; ComponentLink3URL: http://sg.renesas.com/media/products/common_info/package/pdf/transistor/code/prss0003ad_a.pdf
footprint PRSS0003AD-A (TO, Thru-Hole, Vertical, Heatsink Mounted; 3 In-Line Leads; Pitch 2.54 mm)
pins: 1 G, 2 D, 3 S

## 2SJ244
designator Q?
Silicon P-Channel MOSFET; Published: 30-Oct-2009; DatasheetVersion: Rev.2.00, Sep-2005; PackageVersion: Jan-2005; PackageReference: PLZZ0004CA-A; Publisher: Altium Limited; PackageDescription: 3-Pin Plastic SOT-89 Package 1.5 mm Pitch, 4 mm Lead Span; Code_JEITA: SC-62; Code_IPC: SOT89; ComponentLink1Description: Manufacturer Link; ComponentLink1URL: http://sg.renesas.com/fmwk.jsp?cnt=discrete_category_landing.jsp&fp=/products/discrete/; ComponentLink2Description: Datasheet; ComponentLink2URL: http://documentation.renesas.com/eng/products/transistor/rej03g0853_2sj244ds.pdf; ComponentLink3Description: Packaging Specification; ComponentLink3URL: http://sg.renesas.com/media/products/common_info/package/pdf/transistor/code/plzz0004ca_a.pdf
footprint PLZZ0004CA-A_N (SOT89, 3-Leads, Body 4.5x2.5 mm, Pitch 1.5mm, Lead Span 4mm, IPC Medium Density)
footprint PLZZ0004CA-A_L (SOT89, 3-Leads, Body 4.5x2.5 mm, Pitch 1.5mm, Lead Span 4mm, IPC High Density)
footprint PLZZ0004CA-A_M (SOT89, 3-Leads, Body 4.5x2.5 mm, Pitch 1.5mm, Lead Span 4mm, IPC Low Density)
pins: 1 G, 2 D, 3 S

## 2SJ247
designator Q?
Silicon P-Channel MOSFET; Published: 30-Oct-2009; DatasheetVersion: Rev.2.00, Sep-2005; PackageVersion: Sep-2005; PackageReference: PRSS0004AC-A; Publisher: Altium Limited; PackageDescription: TO, Thru-Hole, Vertical, Heatsink Mounted; 3 In-Line Leads; Pitch 2.54 mm (TO-220AB); Code_JEITA: SC-46; ComponentLink1Description: Manufacturer Link; ComponentLink1URL: http://sg.renesas.com/fmwk.jsp?cnt=discrete_category_landing.jsp&fp=/products/discrete/; ComponentLink2Description: Datasheet; ComponentLink2URL: http://documentation.renesas.com/eng/products/transistor/rej03g0854_2sj247ds.pdf; ComponentLink3Description: Packaging Specification; ComponentLink3URL: http://sg.renesas.com/media/products/common_info/package/pdf/transistor/code/prss0004ac_a.pdf
footprint PRSS0004AC-A (TO, Thru-Hole, Vertical, Heatsink Mounted; 3 In-Line Leads; Pitch 2.54 mm)
pins: 1 G, 2 D, 3 S

## 2SJ248
designator Q?
Silicon P-Channel MOSFET; Published: 30-Oct-2009; DatasheetVersion: Rev.2.00, Sep-2005; PackageVersion: Sep-2005; PackageReference: PRSS0003AD-A; Publisher: Altium Limited; PackageDescription: TO, Thru-Hole, Vertical, Heatsink Mounted; 3 In-Line Leads; Pitch 2.54 mm; Code_JEITA: SC-67; ComponentLink1Description: Manufacturer Link; ComponentLink1URL: http://sg.renesas.com/fmwk.jsp?cnt=discrete_category_landing.jsp&fp=/products/discrete/; ComponentLink2Description: Datasheet; ComponentLink2URL: http://documentation.renesas.com/eng/products/transistor/rej03g0855_2sj248ds.pdf; ComponentLink3Description: Packaging Specification; ComponentLink3URL: http://sg.renesas.com/media/products/common_info/package/pdf/transistor/code/prss0003ad_a.pdf
footprint PRSS0003AD-A (TO, Thru-Hole, Vertical, Heatsink Mounted; 3 In-Line Leads; Pitch 2.54 mm)
pins: 1 G, 2 D, 3 S

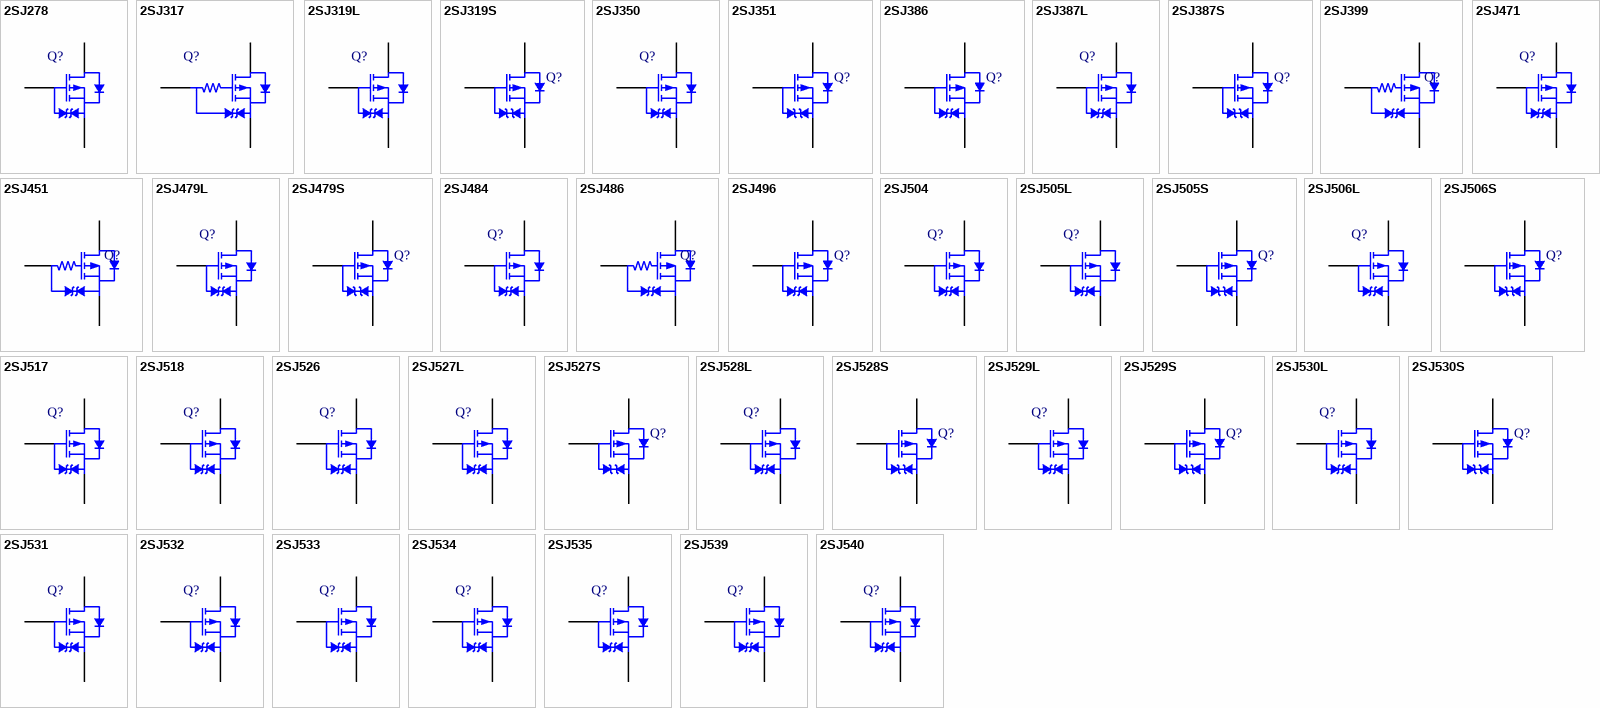
[diagram p1: symbols 2SJ278 to 2SJ540]

## 2SJ278
designator Q?
Silicon P-Channel MOSFET; Published: 30-Oct-2009; DatasheetVersion: Rev.2.00, Sep-2005; PackageVersion: Jan-2005; PackageReference: PLZZ0004CA-A; Publisher: Altium Limited; PackageDescription: 3-Pin Plastic SOT-89 Package 1.5 mm Pitch, 4 mm Lead Span; Code_JEITA: SC-62; Code_IPC: SOT89; ComponentLink1Description: Manufacturer Link; ComponentLink1URL: http://sg.renesas.com/fmwk.jsp?cnt=discrete_category_landing.jsp&fp=/products/discrete/; ComponentLink2Description: Datasheet; ComponentLink2URL: http://documentation.renesas.com/eng/products/transistor/rej03g0856_2sj278ds.pdf; ComponentLink3Description: Packaging Specification; ComponentLink3URL: http://sg.renesas.com/media/products/common_info/package/pdf/transistor/code/plzz0004ca_a.pdf
footprint PLZZ0004CA-A_N (SOT89, 3-Leads, Body 4.5x2.5 mm, Pitch 1.5mm, Lead Span 4mm, IPC Medium Density)
footprint PLZZ0004CA-A_L (SOT89, 3-Leads, Body 4.5x2.5 mm, Pitch 1.5mm, Lead Span 4mm, IPC High Density)
footprint PLZZ0004CA-A_M (SOT89, 3-Leads, Body 4.5x2.5 mm, Pitch 1.5mm, Lead Span 4mm, IPC Low Density)
pins: 1 G, 2 D, 3 S

## 2SJ317
designator Q?
Silicon P-Channel MOSFET; Published: 30-Oct-2009; DatasheetVersion: Rev.2.00, Sep-2005; PackageVersion: Jan-2005; PackageReference: PLZZ0004CA-A; Publisher: Altium Limited; PackageDescription: 3-Pin Plastic SOT-89 Package 1.5 mm Pitch, 4 mm Lead Span; Code_JEITA: SC-62; Code_IPC: SOT89; ComponentLink1Description: Manufacturer Link; ComponentLink1URL: http://sg.renesas.com/fmwk.jsp?cnt=discrete_category_landing.jsp&fp=/products/discrete/; ComponentLink2Description: Datasheet; ComponentLink2URL: http://documentation.renesas.com/eng/products/transistor/rej03g0857_2sj317ds.pdf; ComponentLink3Description: Packaging Specification; ComponentLink3URL: http://sg.renesas.com/media/products/common_info/package/pdf/transistor/code/plzz0004ca_a.pdf
footprint PLZZ0004CA-A_N (SOT89, 3-Leads, Body 4.5x2.5 mm, Pitch 1.5mm, Lead Span 4mm, IPC Medium Density)
footprint PLZZ0004CA-A_L (SOT89, 3-Leads, Body 4.5x2.5 mm, Pitch 1.5mm, Lead Span 4mm, IPC High Density)
footprint PLZZ0004CA-A_M (SOT89, 3-Leads, Body 4.5x2.5 mm, Pitch 1.5mm, Lead Span 4mm, IPC Low Density)
pins: 1 G, 2 D, 3 S

## 2SJ319L
designator Q?
Silicon P-Channel MOSFET; Published: 30-Oct-2009; DatasheetVersion: Rev.2.00, Sep-2005; PackageVersion: Sep-2005; PackageReference: PRSS0004ZD-A; Publisher: Altium Limited; PackageDescription: TO, Thru-Hole, Vertical, Heatsink Mounted; 3 In-Line Leads (DPAK(L)-(1)); ComponentLink1Description: Manufacturer Link; ComponentLink1URL: http://sg.renesas.com/fmwk.jsp?cnt=discrete_category_landing.jsp&fp=/products/discrete/; ComponentLink2Description: Datasheet; ComponentLink2URL: http://documentation.renesas.com/eng/products/transistor/rej03g0858_2sj319lsds.pdf; ComponentLink3Description: Packaging Specification; ComponentLink3URL: http://sg.renesas.com/media/products/common_info/package/pdf/transistor/code/prss0004zd_a.pdf
footprint PRSS0004ZD-A (TO, Thru-Hole, Vertical, Heatsink Mounted; 3 In-Line Leads; Pitch 2.28 mm)
pins: 1 G, 2 D, 3 S

## 2SJ319S
designator Q?
Silicon P-Channel MOSFET; Published: 30-Oct-2009; DatasheetVersion: Rev.2.00, Sep-2005; PackageVersion: Jan-2006; PackageReference: PRSS0004ZD-C; Publisher: Altium Limited; PackageDescription: 3-Pin Plastic Transistor Outline Package, 5.5 x 6.5 mm Body (DPAK(S)); Code_JEITA: SC-63; ComponentLink1Description: Manufacturer Link; ComponentLink1URL: http://sg.renesas.com/fmwk.jsp?cnt=discrete_category_landing.jsp&fp=/products/discrete/; ComponentLink2Description: Datasheet; ComponentLink2URL: http://documentation.renesas.com/eng/products/transistor/rej03g0858_2sj319lsds.pdf; ComponentLink3Description: Packaging Specification; ComponentLink3URL: http://sg.renesas.com/media/products/common_info/package/pdf/transistor/code/prss0004zd_c.pdf
footprint PRSS0004ZD-C_N (D-PAK, 4-Leads, Body 5.5x6.5mm, Pitch 2.3mm, Lead Span 9.9mm, IPC Medium Density)
footprint PRSS0004ZD-C_L (D-PAK, 4-Leads, Body 5.5x6.5mm, Pitch 2.3mm, Lead Span 9.9mm, IPC High Density)
footprint PRSS0004ZD-C_M (D-PAK, 4-Leads, Body 5.5x6.5mm, Pitch 2.3mm, Lead Span 9.9mm, IPC Low Density)
pins: 1 G, 3 S, 4 D

## 2SJ350
designator Q?
Silicon P-Channel MOSFET; Published: 30-Oct-2009; DatasheetVersion: Rev.2.00, Sep-2005; PackageVersion: Sep-2005; PackageReference: PRSS0003AD-A; Publisher: Altium Limited; PackageDescription: TO, Thru-Hole, Vertical, Heatsink Mounted; 3 In-Line Leads; Pitch 2.54 mm; Code_JEITA: SC-67; ComponentLink1Description: Manufacturer Link; ComponentLink1URL: http://sg.renesas.com/fmwk.jsp?cnt=discrete_category_landing.jsp&fp=/products/discrete/; ComponentLink2Description: Datasheet; ComponentLink2URL: http://documentation.renesas.com/eng/products/transistor/rej03g0859_2sj350ds.pdf; ComponentLink3Description: Packaging Specification; ComponentLink3URL: http://sg.renesas.com/media/products/common_info/package/pdf/transistor/code/prss0003ad_a.pdf
footprint PRSS0003AD-A (TO, Thru-Hole, Vertical, Heatsink Mounted; 3 In-Line Leads; Pitch 2.54 mm)
pins: 1 G, 2 D, 3 S

## 2SJ351
designator Q?
Silicon P-Channel MOSFET; Published: 30-Oct-2009; DatasheetVersion: Rev.2.00, Sep-2005; PackageVersion: Sep-2005; PackageReference: PRSS0004ZE-A; Publisher: Altium Limited; PackageDescription: TO, Thru-Hole, Vertical, Heatsink Mounted; 3 In-Line Leads; Pitch 5.45 mm (TO-3P); Code_JEITA: SC-65; ComponentLink1Description: Manufacturer Link; ComponentLink1URL: http://sg.renesas.com/fmwk.jsp?cnt=discrete_category_landing.jsp&fp=/products/discrete/; ComponentLink2Description: Datasheet; ComponentLink2URL: http://documentation.renesas.com/eng/products/transistor/rej03g0860_2sj351ds.pdf; ComponentLink3Description: Packaging Specification; ComponentLink3URL: http://sg.renesas.com/media/products/common_info/package/pdf/transistor/code/prss0004ze_a.pdf
footprint PRSS0004ZE-A (TO, Thru-Hole, Vertical, Heatsink Mounted; 3 In-Line Leads; Pitch 5.45 mm)
pins: 1 G, 2 S, 3 D